# EAGLE library part S70FL01GSAGM (library smf2)
Memory S70FL01G Datenblatt <https://www.cypress.com/file/233721/download>
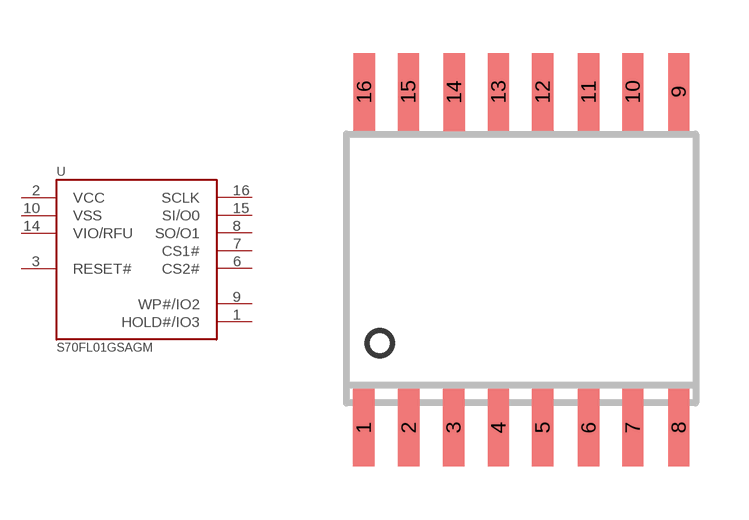
[diagram p2: symbol with the pads of SOIC16; footprint SOIC16]

Designator prefix -

## S70FL01GSAGM  [SOIC16]
1  HOLD#/IO3
2  VCC
3  RESET#
6  CS2#
7  CS1#
8  SO/O1
9  WP#/IO2
10  VSS
14  VIO/RFU
15  SI/O0
16  SCLK

## Footprint SOIC16 (pad centres in mm)
smd 0.6 x 2.2: 1 -4.445,-5.14; 2 -3.175,-5.14; 3 -1.905,-5.14; 4 -0.635,-5.14; 5 0.615,-5.14; 6 1.915,-5.14; 7 3.165,-5.14; 8 4.465,-5.14; 9 4.465,4.36; 10 3.165,4.36; 11 1.915,4.36; 12 0.615,4.36; 13 -0.635,4.36; 14 -1.89,4.355; 15 -3.185,4.36; 16 -4.435,4.36